# Altium schematic symbol library SAMTEC_TSM.SchLib: 6 symbols
Pins are listed as number, name and electrical type; pins without a type are passive.

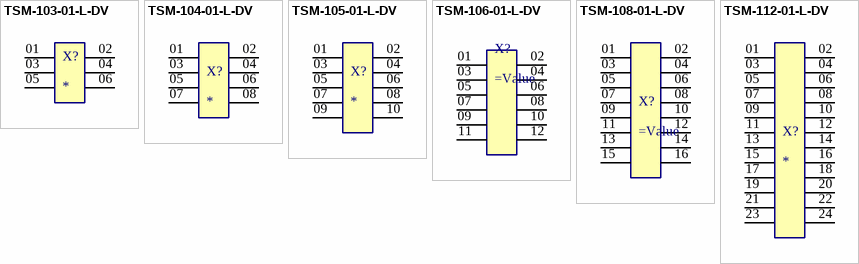
[diagram p0: symbols TSM-103-01-L-DV to TSM-112-01-L-DV]

## TSM-103-01-L-DV
designator X?
TSM - Samtec 2.54mm Dual Row Vertical Surface Mount Header 5.84mm Post Height (01) - Fast Stock; MP: TSM-104-01-F-DV; MF: Samtec; Digi-Key_Part_Number: SAM14811TR-ND; Value: *; SnapEDA_Link: https://www.snapeda.com/parts/TSM-104-01-F-DV/Samtec/view-part/4795258/?ref=snap; Check_prices: https://www.snapeda.com/parts/TSM-104-01-F-DV/Samtec/view-part/4795258/?ref=eda; Package: None; Purchase-URL: https://pricing.snapeda.com/search/part/TSM-104-01-F-DV/?ref=eda
pins: 01, 02, 03, 04, 05, 06

## TSM-104-01-L-DV
designator X?
TSM - Samtec 2.54mm Dual Row Vertical Surface Mount Header 5.84mm Post Height (01) - Fast Stock; MP: TSM-104-01-F-DV; MF: Samtec; Digi-Key_Part_Number: SAM14811TR-ND; Value: *; SnapEDA_Link: https://www.snapeda.com/parts/TSM-104-01-F-DV/Samtec/view-part/4795258/?ref=snap; Check_prices: https://www.snapeda.com/parts/TSM-104-01-F-DV/Samtec/view-part/4795258/?ref=eda; Package: None; Purchase-URL: https://pricing.snapeda.com/search/part/TSM-104-01-F-DV/?ref=eda
footprint TSM-104-01-L-DV (Footprint not found)
pins: 01, 02, 03, 04, 05, 06, 07, 08

## TSM-105-01-L-DV
designator X?
TSM - Samtec 2.54mm Dual Row Vertical Surface Mount Header 5.84mm Post Height (01) - Fast Stock; MP: TSM-105-01-L-DV; Package: None; MF: Samtec; Availability: Unavailable; Value: *; Price: None
footprint TSM-105-01-L-DV
pins: 01, 02, 03, 04, 05, 06, 07, 08, 09, 10

## TSM-106-01-L-DV
designator X?
TSM - Samtec 2.54mm Dual Row Vertical Surface Mount Header 5.84mm Post Height (01) - Fast Stock
pins: 01, 02, 03, 04, 05, 06, 07, 08, 09, 10, 11, 12

## TSM-108-01-L-DV
designator X?
TSM - Samtec 2.54mm Dual Row Vertical Surface Mount Header 5.84mm Post Height (01) - Fast Stock; MPN: TSM-108-01-L-DV; Value: TSM-108-01-L-DV; MF: Samtec; Created: 2021_09_10_AGeiger
footprint TSM-108-01-L-DV
pins: 01, 02, 03, 04, 05, 06, 07, 08, 09, 10, 11, 12, 13, 14, 15, 16

## TSM-112-01-L-DV
designator X?
TSM - Samtec 2.54mm Dual Row Vertical Surface Mount Header 5.84mm Post Height (01) - Fast Stock; MP: TSM-112-01-L-DV; Package: None; Availability: Unavailable; Price: None; MF: Samtec; Value: *
footprint TSM-112-01-L-DV
pins: 01, 02, 03, 04, 05, 06, 07, 08, 09, 10, 11, 12, 13, 14, 15, 16, 17, 18, 19, 20, 21, 22, 23, 24